# Altium footprint library PCB - CONNECTOR - WURTH 7499110123.PCBLIB: 1 footprints
Each footprint in its own frame and in the unit in brackets; x right, y up, seen from the top. Pads: shape width x height; smd on the part's side, far side on the other; paste and mask are expansions set on the pad; w line width, h text height; cw(c..) or ccw(c..) is an arc to the next point about the centre after c.
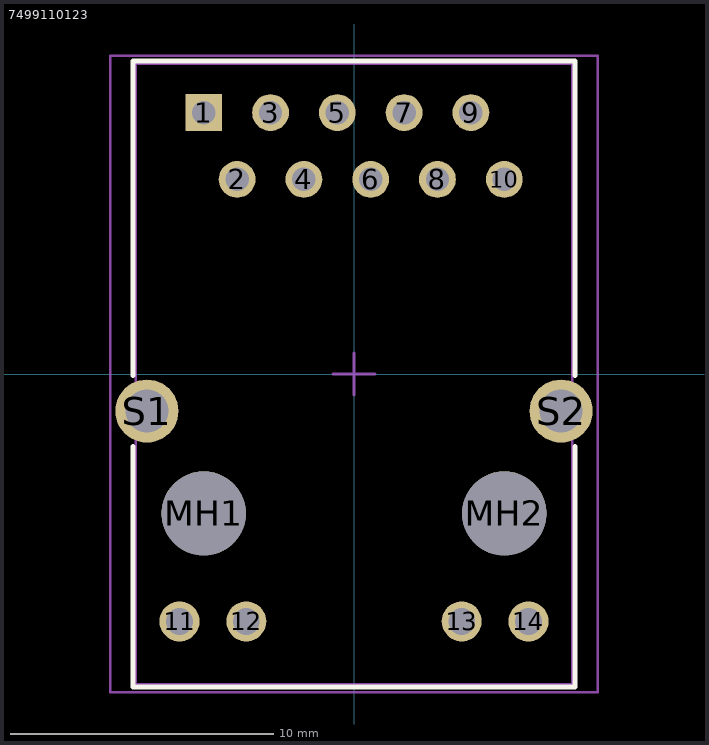
[diagram p0: the footprint, top view; thin cyan lines are the x and y axes]

## 7499110123 [mm] "LAN Transformer, body 23.6x16.6mm"
height 17.1
pads (18):
  rect 1.4x1.4 hole 0.89: 1(-5.715,9.94)
  round 1.4 hole 0.89: 2(-4.445,7.4) 3(-3.175,9.94) 4(-1.905,7.4) 5(-0.635,9.94) 6(0.635,7.4) 7(1.905,9.94) 8(3.175,7.4) 9(4.445,9.94) 10(5.715,7.4)
  round 1.52 hole 1.02: 11(-6.635,-9.41) 12(-4.095,-9.41) 13(4.095,-9.41) 14(6.635,-9.41)
  round 3.2 hole 3.2 unplated: MH1(-5.715,-5.3) MH2(5.715,-5.3)
  round 2.4 hole 1.63: S1(-7.875,-1.41) S2(7.875,-1.41)
Top Overlay:
  lines w0.2: -8.4,-2.77 -8.4,-11.9 8.4,-11.9 8.4,-2.77 ; -8.4,-0.05 -8.4,11.9 8.4,11.9 8.4,-0.05
M5 Assembly Top:
  lines w0.1: -8.3,-11.8 8.3,-11.8 8.3,11.8 -8.3,11.8 -8.3,-11.8
  text ".Designator" at -1.3,-0.8 h1.52
Mechanical 11:
  lines w0.1: -8.3,-11.8 -8.3,11.8 8.3,11.8 8.3,-11.8 -8.3,-11.8
Mechanical 15:
  lines w0.1: -0.8,0 0.8,0 ; 0,-0.8 0,0.8 ; -9.275,-12.1 9.275,-12.1 9.275,12.1 -9.275,12.1 -9.275,-12.1
3D body "7499110123.stp": height 17.2, standoff -2.7, extent -8.3,-11.8 8.3,11.8